# Altium integrated library ALPS_EC11.IntLib: 1 symbol
Pins are listed as number, name and electrical type; pins without a type are passive.

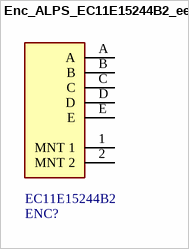
[diagram p0: symbol Enc_ALPS_EC11E15244B2_eec]

## Enc_ALPS_EC11E15244B2_eec
designator ENC?  Part Number: EC11E15244B2
Manufacturer: ALPS; Ratings: 10mA 5V DC; Actuator length: 20mm; Number of pulse: 15; Operating life: 15,000 cycles; Number of detent: 30; helpURL: https://upverter.com/upn/revision/bf96b8ba6cbf8ed0/; ComponentLink2Description: Datasheet; Temperature: -40°C to +85°C; Package: PTH_ENC_11MM7_12MM0; Supplier 2: Mouser; Supplier 1: Digi-Key; ComponentLink1URL: https://upverter.com/upn/revision/bf96b8ba6cbf8ed0/; Supplier Part Number 2: 688-EC11E15244B2; ComponentLink1Description: Upverter; ComponentLink2URL: http://www.alps.com/prod/info/E/HTML/Encoder/Incremental/EC11/EC11E15244B2.html; RoHS: TRUE; Mouser Part Number: 688-EC11E15244B2; Temperature Range High: +85°C; Temperature Range Low: -40°C; Lead Free: yes
footprint ALPS_EC11E15244B2_0
pins: 1 MNT 1, 2 MNT 2, A, B, C, D, E